# Altium footprint library Leadless.PcbLib: 132 footprints (part 3 of 9)
Each footprint in its own frame and in the unit in brackets; x right, y up, seen from the top. Pads: shape width x height; smd on the part's side, far side on the other; paste and mask are expansions set on the pad; w line width, h text height; cw(c..) or ccw(c..) is an arc to the next point about the centre after c.
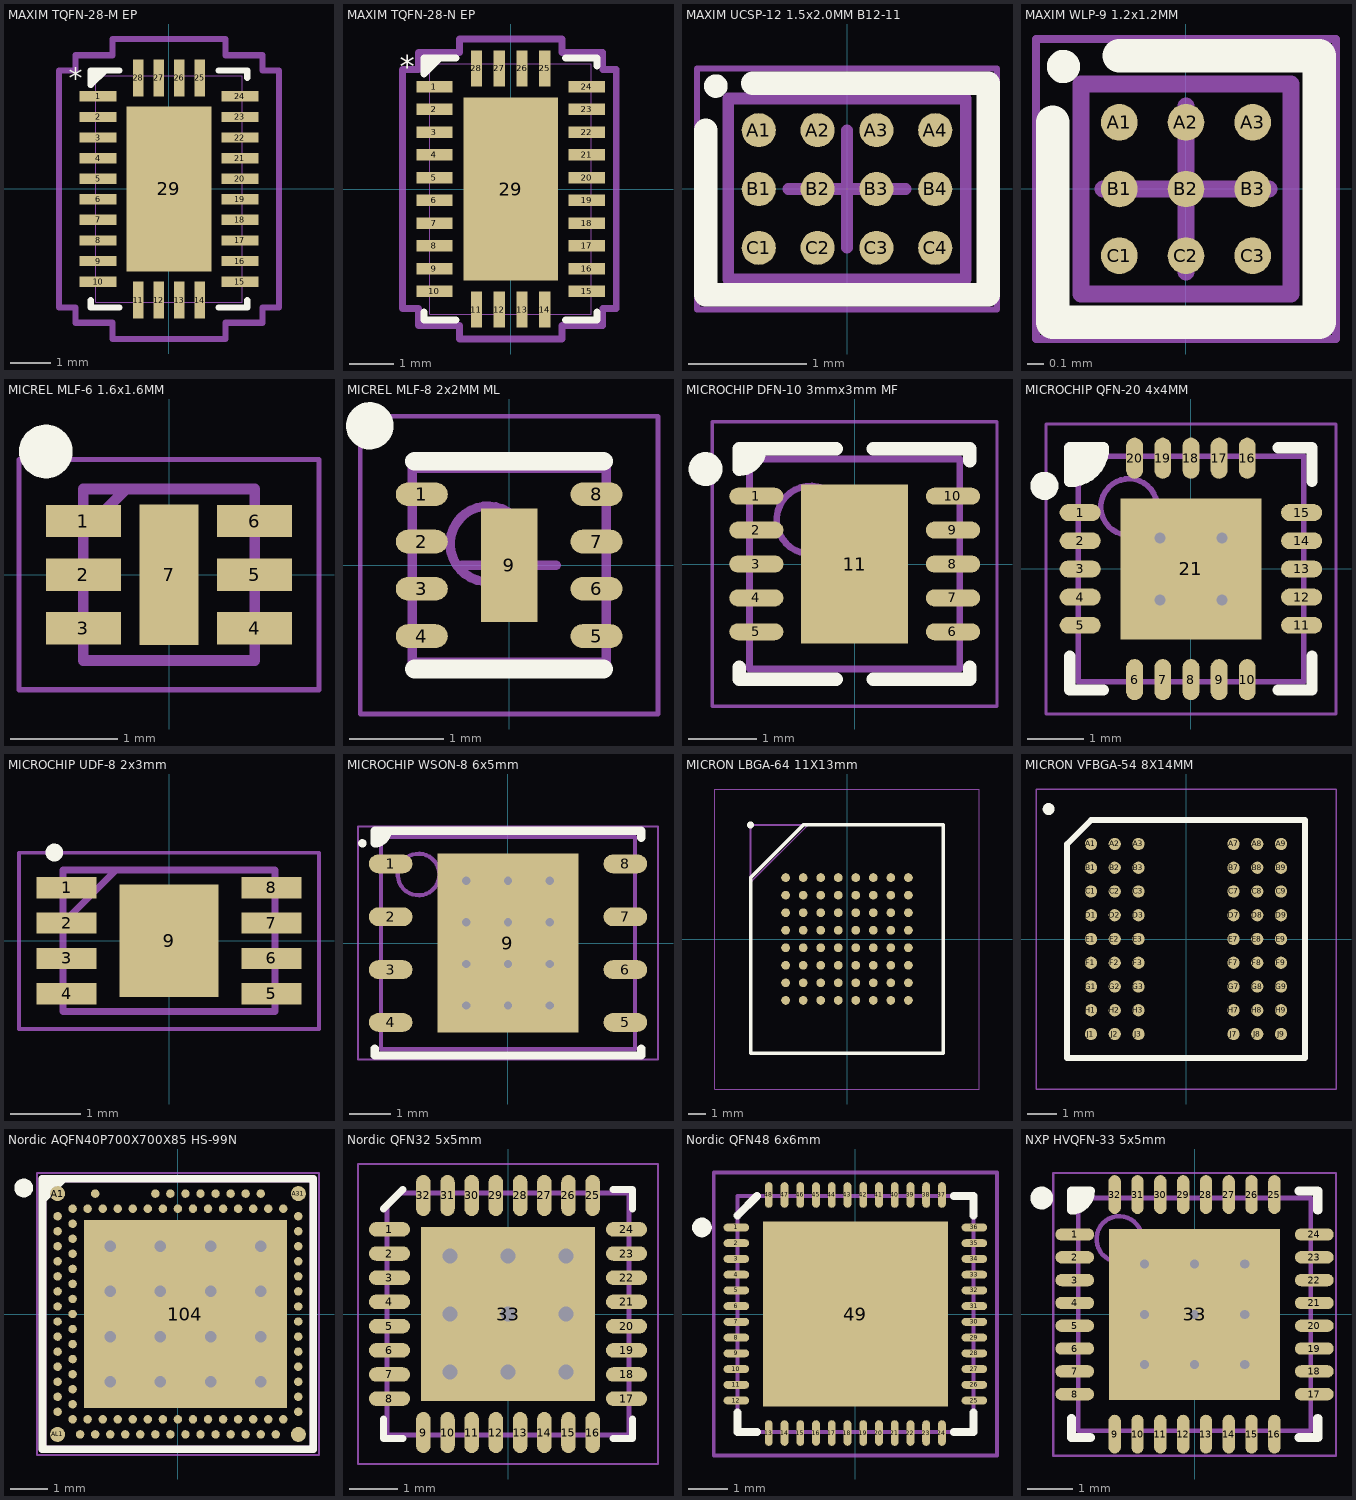
[diagram p2: the footprints below, top view; thin cyan lines are the x and y axes]

## MAXIM TQFN-28-M EP [mil] "Maxim 28 pin TQFN with Expansion Pad"
height 33.46
pads (29):
  rect 35.75x10.03 smd paste+0 mask+0: 1(-68.87,90) 2(-68.87,70) 3(-68.87,50) 4(-68.87,30) 5(-68.87,10) 6(-68.87,-10) 7(-68.87,-30) 8(-68.87,-50) 9(-68.87,-70) 10(-68.87,-90) 15(68.87,-90) 16(68.87,-70) 17(68.87,-50) 18(68.87,-30) 19(68.87,-10) 20(68.87,10) 21(68.87,30) 22(68.87,50) 23(68.87,70) 24(68.87,90)
  rect 10.03x35.75 smd paste+0 mask+0: 11(-30,-107.87) 12(-10,-107.87) 13(10,-107.87) 14(30,-107.87) 25(30,107.87) 26(10,107.87) 27(-10,107.87) 28(-30,107.87)
  rect 83.07x160.63 smd: 29(0,0)
Top Overlay:
  lines w5.98: -76,101.06 -62.06,115 ; -76,108.03 -69.03,115
  lines w6: -76,-108.12 -76,-115 -48.12,-115 ; -76,101.06 -76,115 -48.12,115 ; 48.12,-115 76,-115 76,-108.12 ; 48.12,115 76,115 76,108.12
  text "*" at -97.44,98.1 h19.68
Assembly Notes:
  lines w1: -71,-110 -71,110 71,110 71,-110 -71,-110 ; -71,-96 -71,-84 -71,-96 ; -71,-76 -71,-64 -71,-76 ; -71,-56 -71,-44 -71,-56 ; -71,-36 -71,-24 -71,-36 ; -71,-16 -71,-4 -71,-16 ; -71,4 -71,16 -71,4 ; -71,24 -71,36 -71,24 ; -71,44 -71,56 -71,44 ; -71,64 -71,76 -71,64 ; -71,84 -71,96 -71,84 ; -36,-110 -24,-110 -36,-110 ; -36,110 -24,110 -36,110 ; -16,-110 -4,-110 -16,-110 ; -16,110 -4,110 -16,110 ; 4,-110 16,-110 4,-110 ; 4,110 16,110 4,110 ; 24,-110 36,-110 24,-110 ; 24,110 36,110 24,110 ; 71,-96 71,-84 71,-96 ; 71,-76 71,-64 71,-76 ; 71,-56 71,-44 71,-56 ; 71,-36 71,-24 71,-36 ; 71,-16 71,-4 71,-16 ; 71,4 71,16 71,4 ; 71,24 71,36 71,24 ; 71,44 71,56 71,44 ; 71,64 71,76 71,64 ; 71,84 71,96 71,84
Dimensions:
  lines w6: -106.75,-115.02 -106.75,115.02 -91,115.02 -91,130 -55.02,130 -55.02,145.75 55.02,145.75 55.02,130 91,130 91,115.02 106.75,115.02 106.75,-115.02 91,-115.02 91,-130 55.02,-130 55.02,-145.75 -55.02,-145.75 -55.02,-130 -91,-130 -91,-115.02 -106.75,-115.02
3D body "21-0184D_MXM.step": height 55.12, standoff 0, extent -70.98,-110 70.99,110

## MAXIM TQFN-28-N EP [mil] "Maxim 28 pin TQFN with Expansion Pad"
height 33.46
pads (29):
  rect 31.81x10.03 smd paste+0 mask+0: 1(-66.91,90) 2(-66.91,70) 3(-66.91,50) 4(-66.91,30) 5(-66.91,10) 6(-66.91,-10) 7(-66.91,-30) 8(-66.91,-50) 9(-66.91,-70) 10(-66.91,-90) 15(66.91,-90) 16(66.91,-70) 17(66.91,-50) 18(66.91,-30) 19(66.91,-10) 20(66.91,10) 21(66.91,30) 22(66.91,50) 23(66.91,70) 24(66.91,90)
  rect 10.03x31.81 smd paste+0 mask+0: 11(-30,-105.91) 12(-10,-105.91) 13(10,-105.91) 14(30,-105.91) 25(30,105.91) 26(10,105.91) 27(-10,105.91) 28(-30,105.91)
  rect 83.07x160.63 smd: 29(0,0)
Top Overlay:
  lines w5.98: -76,101.06 -62.06,115 ; -76,108.03 -69.03,115
  lines w6: -76,-108.12 -76,-115 -48.12,-115 ; -76,101.06 -76,115 -48.12,115 ; 48.12,-115 76,-115 76,-108.12 ; 48.12,115 76,115 76,108.12
  text "*" at -97.44,98.1 h19.68
Assembly Notes:
  lines w1: -71,-110 71,-110 71,110 -71,110 -71,-110 ; -71,-96 -71,-84 -71,-96 ; -71,-76 -71,-64 -71,-76 ; -71,-56 -71,-44 -71,-56 ; -71,-36 -71,-24 -71,-36 ; -71,-16 -71,-4 -71,-16 ; -71,4 -71,16 -71,4 ; -71,24 -71,36 -71,24 ; -71,44 -71,56 -71,44 ; -71,64 -71,76 -71,64 ; -71,84 -71,96 -71,84 ; -36,-110 -24,-110 -36,-110 ; -36,110 -24,110 -36,110 ; -16,-110 -4,-110 -16,-110 ; -16,110 -4,110 -16,110 ; 4,-110 16,-110 4,-110 ; 4,110 16,110 4,110 ; 24,-110 36,-110 24,-110 ; 24,110 36,110 24,110 ; 71,-96 71,-84 71,-96 ; 71,-76 71,-64 71,-76 ; 71,-56 71,-44 71,-56 ; 71,-36 71,-24 71,-36 ; 71,-16 71,-4 71,-16 ; 71,4 71,16 71,4 ; 71,24 71,36 71,24 ; 71,44 71,56 71,44 ; 71,64 71,76 71,64 ; 71,84 71,96 71,84
Dimensions:
  lines w5.98: -95,-105 -95,105
  lines w6: -95,-105 -81,-105 -81,-120 -45.02,-120 -45.02,-131.81 45.02,-131.81 45.02,-120 81,-120 81,-105.02 92.81,-105.02 92.81,105.02 81,105.02 81,120 45.02,120 45.02,131.81 -45.02,131.81 -45.02,120 -81,120 -81,105 -95,105
3D body "21-0184D_MXM.step": height 55.12, standoff 0, extent -70.98,-109.99 70.99,110.01

## MAXIM UCSP-12 1.5x2.0MM B12-11 [mm] "BGA, 12-Leads, Body 2.02x1.54mmx0.67mm, Pitch 0.50mm"
height 0.67
pads (12):
  round 0.29 smd: A1(-0.75,0.5) A2(-0.25,0.5) A3(0.25,0.5) A4(0.75,0.5) B1(-0.75,0) B2(-0.25,0) B3(0.25,0) B4(0.75,0) C1(-0.75,-0.5) C2(-0.25,-0.5) C3(0.25,-0.5) C4(0.75,-0.5)
Top Overlay:
  circle w0.1: c-1.115,0.875 r0.05
  lines w0.2: -1.2,0.5 -1.2,-0.9 1.2,-0.9 1.2,0.9 -0.8,0.9
Top Component Outline:
  lines w0.1: -1.01,-0.77 1.01,-0.77 1.01,0.77 -1.01,0.77 -1.01,-0.77
Top Courtyard:
  lines w0.05: -1.275,-1.025 1.275,-1.025 1.275,1.025 -1.275,1.025 -1.275,-1.025
  lines w0.1: -0.5,0 0.5,0 ; 0,-0.5 0,0.5
3D body: height 0.67, standoff 0.27, extent -1.01,-0.77 1.01,0.77

## MAXIM WLP-9 1.2x1.2MM [mm] "WLP, 9-Leads, Body 1.26x1.26mmx0.64mm, Pitch 0.40mm"
height 0.64
pads (9):
  round 0.22 smd: A1(-0.4,0.4) A2(0,0.4) A3(0.4,0.4) B1(-0.4,0) B2(0,0) B3(0.4,0) C1(-0.4,-0.4) C2(0,-0.4) C3(0.4,-0.4)
Top Overlay:
  circle w0.1: c-0.735,0.735 r0.05
  lines w0.2: -0.8,0.4 -0.8,-0.8 0.8,-0.8 0.8,0.8 -0.4,0.8
Top Component Outline:
  lines w0.1: -0.63,-0.63 -0.63,0.63 0.63,0.63 0.63,-0.63 -0.63,-0.63
Top Courtyard:
  lines w0.05: -0.9,-0.9 -0.9,0.9 0.9,0.9 0.9,-0.9 -0.9,-0.9
  lines w0.1: -0.5,0 0.5,0 ; 0,-0.5 0,0.5
3D body: height 0.64, standoff 0.16, extent -0.63,-0.63 0.63,0.63

## MICREL MLF-6 1.6x1.6MM [mm] "6-UFDFN Exposed Pad, 6-TMLF®"
height 0.55
pads (7):
  rect 0.7x0.3 smd: 1(-0.8,0.5) 2(-0.8,0) 3(-0.8,-0.5) 4(0.8,-0.5) 5(0.8,0) 6(0.8,0.5)
  rect 0.55x1.31 smd: 7(0,0)
Top Overlay:
  circle w0.25: c-1.15,1.15 r0.125
Top Component Outline:
  lines w0.1: -0.8,0.4 -0.4,0.8 ; -0.8,-0.8 -0.8,0.8 0.8,0.8 0.8,-0.8 -0.8,-0.8
Top Courtyard:
  lines w0.05: -1.4,-1.075 -1.4,1.075 1.4,1.075 1.4,-1.075 -1.4,-1.075
3D body "MIC5353-3.3YMT-TR.stp": height 0.6, standoff 0, extent -0.85,-0.8 0.85,0.8

## MICREL MLF-8 2x2MM ML [mm] "MLF, 8-Leads, Body 2.00x2.00mm, Pitch 0.50mm, Thermal Pad 0.60x1.20mm, IPC Medium Density"
height 0.85
pads (9):
  oval 0.55x0.25 smd: 1(-0.925,0.75) 2(-0.925,0.25) 3(-0.925,-0.25) 4(-0.925,-0.75) 5(0.925,-0.75) 6(0.925,-0.25) 7(0.925,0.25) 8(0.925,0.75)
  rect 0.6x1.2 smd: 9(0,0)
Top Overlay:
  circle w0.25: c-1.475,1.475 r0.125
  lines w0.2: -1,-1.1 1,-1.1 ; -1,1.1 1,1.1
Top Component Outline:
  circle w0.1: c-0.225,0.225 r0.4
  lines w0.1: -1.025,-1.025 1.025,-1.025 1.025,1.025 -1.025,1.025 -1.025,-1.025
Top Courtyard:
  lines w0.05: -1.575,-1.575 1.575,-1.575 1.575,1.575 -1.575,1.575 -1.575,-1.575
  lines w0.1: -0.5,0 0.5,0 ; 0,-0.5 0,0.5
3D body: height 0.85, standoff 0.01, extent -1.025,-1.025 1.025,1.025

## MICROCHIP DFN-10 3mmx3mm MF [mm] "DFN, 10-Leads, Body 3.00x3.00mm, Pitch 0.50mm, Thermal Pad 1.58x2.34mm, IPC Medium Density"
height 1
pads (11):
  oval 0.8x0.25 smd: 1(-1.45,1) 2(-1.45,0.5) 3(-1.45,0) 4(-1.45,-0.5) 5(-1.45,-1) 6(1.45,-1) 7(1.45,-0.5) 8(1.45,0) 9(1.45,0.5) 10(1.45,1)
  rect 1.58x2.34 smd: 11(0,0)
Top Overlay:
  circle w0.25: c-2.2,1.4 r0.125
  region: -1.7,1.7 -1.4,1.7 -1.7,1.4
  lines w0.2: -1.7,-1.525 -1.7,-1.7 -0.275,-1.7 ; -1.4,1.7 cw(c-1.7,1.7) -1.7,1.4 -1.7,1.7 -0.275,1.7 ; 0.275,-1.7 1.7,-1.7 1.7,-1.525 ; 0.275,1.7 1.7,1.7 1.7,1.525
Top Component Outline:
  circle w0.1: c-0.65,0.65 r0.5
  lines w0.1: -1.55,-1.55 1.55,-1.55 1.55,1.55 -1.55,1.55 -1.55,-1.55
Top Courtyard:
  lines w0.05: -2.1,-2.1 2.1,-2.1 2.1,2.1 -2.1,2.1 -2.1,-2.1
  lines w0.1: -0.5,0 0.5,0 ; 0,-0.5 0,0.5
3D body: height 1, standoff 0.01, extent -1.55,-1.55 1.55,1.55

## MICROCHIP QFN-20 4x4MM [mm] "QFN, 20-Leads, Body 4.00x4.00mm, Pitch 0.50mm, Thermal Pad 2.50x2.50mm, IPC Medium Density"
height 1
pads (21):
  oval 0.73x0.3 smd: 1(-1.965,1) 2(-1.965,0.5) 3(-1.965,0) 4(-1.965,-0.5) 5(-1.965,-1) 11(1.965,-1) 12(1.965,-0.5) 13(1.965,0) 14(1.965,0.5) 15(1.965,1)
  oval 0.3x0.73 smd: 6(-1,-1.965) 7(-0.5,-1.965) 8(0,-1.965) 9(0.5,-1.965) 10(1,-1.965) 16(1,1.965) 17(0.5,1.965) 18(0,1.965) 19(-0.5,1.965) 20(-1,1.965)
  rect 2.5x2.5 smd: 21(0,0)
via -0.55,0.55 diameter 0.5 hole 0.2
via 0.55,0.55 diameter 0.5 hole 0.2
via -0.55,-0.55 diameter 0.5 hole 0.2
via 0.55,-0.55 diameter 0.5 hole 0.2
Top Overlay:
  circle w0.25: c-2.6,1.475 r0.125
  region: -1.55,2.15 -2.15,2.15 -2.15,1.55 -1.925,1.55 -1.55,1.925
  lines w0.2: -2.15,-1.55 -2.15,-2.15 -1.55,-2.15 ; 1.55,-2.15 2.15,-2.15 2.15,-1.55 ; 1.55,2.15 2.15,2.15 2.15,1.55 ; -2.15,1.55 ccw(c-2.15,2.15) -1.55,2.15 -2.15,2.15 -2.15,1.55
Top Component Outline:
  circle w0.1: c-1.1,1.1 r0.5
  lines w0.1: -2,-2 -2,2 2,2 2,-2 -2,-2
Top Courtyard:
  lines w0.05: -2.575,-2.575 -2.575,2.575 2.575,2.575 2.575,-2.575 -2.575,-2.575
  lines w0.1: -0.5,0 0.5,0 ; 0,-0.5 0,0.5
3D body: height 1, standoff 0, extent -2,-2 2,2

## MICROCHIP UDF-8 2x3mm [mm]
pads (9):
  rect 0.85x0.3 smd: 1(-1.45,0.75) 2(-1.45,0.25) 3(-1.45,-0.25) 4(-1.45,-0.75) 5(1.45,-0.75) 6(1.45,-0.25) 7(1.45,0.25) 8(1.45,0.75)
  rect 1.4x1.6 smd: 9(0,0)
Top Overlay:
  circle w0.15: c-1.625,1.25 r0.05
Top Component Outline:
  lines w0.1: -1.5,0.25 -0.75,1 ; -1.5,-1 -1.5,1 1.5,1 1.5,-1 -1.5,-1
Top Courtyard:
  lines w0.05: -2.125,-1.25 -2.125,1.25 2.125,1.25 2.125,-1.25 -2.125,-1.25
3D body "ATECC608B-MAHCZ-T.stp": height 0.6, standoff 0, extent -1.55,-1 1.55,1

## MICROCHIP WSON-8 6x5mm [mm] "SON, 8-Leads, Body 5.00x6.00mm, Pitch 1.27mm, Thermal Pad 4.30x3.40mm, IPC Medium Density"
height 0.8
pads (9):
  oval 1.05x0.45 smd: 1(-2.82,1.905) 2(-2.82,0.635) 3(-2.82,-0.635) 4(-2.82,-1.905) 5(2.82,-1.905) 6(2.82,-0.635) 7(2.82,0.635) 8(2.82,1.905)
  rect 3.4x4.3 smd paste-1.7 mask+0: 9(0,0)
via -1,1.5 diameter 0.5 hole 0.2
via 0,1.5 diameter 0.5 hole 0.2
via 1,1.5 diameter 0.5 hole 0.2
via -1,0.5 diameter 0.5 hole 0.2
via 0,0.5 diameter 0.5 hole 0.2
via 1,0.5 diameter 0.5 hole 0.2
via -1,-0.5 diameter 0.5 hole 0.2
via 0,-0.5 diameter 0.5 hole 0.2
via 1,-0.5 diameter 0.5 hole 0.2
via -1,-1.5 diameter 0.5 hole 0.2
via 0,-1.5 diameter 0.5 hole 0.2
via 1,-1.5 diameter 0.5 hole 0.2
Top Overlay:
  circle w0.1: c-3.5,2.4 r0.05
  region: -3.2,2.4 -3.14,2.4 -3.03,2.446 -2.946,2.53 -2.9,2.64 -2.9,2.7 -3.2,2.7
  lines w0.2: -3.2,-2.53 -3.2,-2.7 3.2,-2.7 3.2,-2.53 ; -2.9,2.7 cw(c-3.2,2.7) -3.2,2.4 ; 3.2,2.53 3.2,2.7 -3.2,2.7 -3.2,2.4 ; -3.2,2.4 -3.2,2.4
Top Paste:
  rectangle: -1.595,0.815 -0.665,2.045
  rectangle: -1.595,-0.615 -0.665,0.615
  rectangle: -1.595,-2.045 -0.665,-0.815
  rectangle: -0.465,0.815 0.465,2.045
  rectangle: -0.465,-0.615 0.465,0.615
  rectangle: -0.465,-2.045 0.465,-0.815
  rectangle: 0.665,0.815 1.595,2.045
  rectangle: 0.665,-0.615 1.595,0.615
  rectangle: 0.665,-2.045 1.595,-0.815
Top Component Outline:
  circle w0.1: c-2.15,1.65 r0.5
  lines w0.1: -3.05,-2.55 -3.05,2.55 3.05,2.55 3.05,-2.55 -3.05,-2.55
Top Courtyard:
  lines w0.05: -3.605,-2.8 -3.605,2.8 3.605,2.8 3.605,-2.8 -3.605,-2.8
  lines w0.1: -0.5,0 0.5,0 ; 0,-0.5 0,0.5
3D body: height 0.8, standoff 0, extent -3.05,-2.55 3.05,2.55

## MICRON LBGA-64 11X13mm [mm] "64-Ball LBGA – 11mm x 13mm (Package Code: PC)"
height 1.3
pads (64):
  round 0.5 smd: A1(-3.5,3.5) A2(-2.5,3.5) A3(-1.5,3.5) A4(-0.5,3.5) A5(0.5,3.5) A6(1.5,3.5) A7(2.5,3.5) A8(3.5,3.5) B1(-3.5,2.5) B2(-2.5,2.5) B3(-1.5,2.5) B4(-0.5,2.5) B5(0.5,2.5) B6(1.5,2.5) B7(2.5,2.5) B8(3.5,2.5) C1(-3.5,1.5) C2(-2.5,1.5) C3(-1.5,1.5) C4(-0.5,1.5) C5(0.5,1.5) C6(1.5,1.5) C7(2.5,1.5) C8(3.5,1.5) D1(-3.5,0.5) D2(-2.5,0.5) D3(-1.5,0.5) D4(-0.5,0.5) D5(0.5,0.5) D6(1.5,0.5) D7(2.5,0.5) D8(3.5,0.5) E1(-3.5,-0.5) E2(-2.5,-0.5) E3(-1.5,-0.5) E4(-0.5,-0.5) E5(0.5,-0.5) E6(1.5,-0.5) E7(2.5,-0.5) E8(3.5,-0.5) F1(-3.5,-1.5) F2(-2.5,-1.5) F3(-1.5,-1.5) F4(-0.5,-1.5) F5(0.5,-1.5) F6(1.5,-1.5) F7(2.5,-1.5) F8(3.5,-1.5) G1(-3.5,-2.5) G2(-2.5,-2.5) G3(-1.5,-2.5) G4(-0.5,-2.5) G5(0.5,-2.5) G6(1.5,-2.5) G7(2.5,-2.5) G8(3.5,-2.5) H1(-3.5,-3.5) H2(-2.5,-3.5) H3(-1.5,-3.5) H4(-0.5,-3.5) H5(0.5,-3.5) H6(1.5,-3.5) H7(2.5,-3.5) H8(3.5,-3.5)
Top Overlay:
  circle w0.2: c-5.5,6.5 r0.1
  lines w0.2: -5.5,-6.5 5.5,-6.5 5.5,6.5 -2.5,6.5 -5.5,3.5 -5.5,-6.5
Top Component Outline:
  lines w0.1: -5.5,3.225 -2.225,6.5 ; -5.5,-6.5 5.5,-6.5 5.5,6.5 -5.5,6.5 -5.5,-6.5
Top Courtyard:
  lines w0.05: -7.55,-8.55 7.55,-8.55 7.55,8.55 -7.55,8.55 -7.55,-8.55
3D body "MT28EW128ABA1LPC-0SIT.stp": height 1.4, standoff 0, extent -5.5,-6.5 5.5,6.5

## MICRON VFBGA-54 8X14MM [mm] "54-Ball VFBGA \"BG/FG\" (8mm x 14mm) (x16)"
pads (54):
  round 0.41 smd: A1(-3.2,3.2) A2(-2.4,3.2) A3(-1.6,3.2) A7(1.6,3.2) A8(2.4,3.2) A9(3.2,3.2) B1(-3.2,2.4) B2(-2.4,2.4) B3(-1.6,2.4) B7(1.6,2.4) B8(2.4,2.4) B9(3.2,2.4) C1(-3.2,1.6) C2(-2.4,1.6) C3(-1.6,1.6) C7(1.6,1.6) C8(2.4,1.6) C9(3.2,1.6) D1(-3.2,0.8) D2(-2.4,0.8) D3(-1.6,0.8) D7(1.6,0.8) D8(2.4,0.8) D9(3.2,0.8) E1(-3.2,0) E2(-2.4,0) E3(-1.6,0) E7(1.6,0) E8(2.4,0) E9(3.2,0) F1(-3.2,-0.8) F2(-2.4,-0.8) F3(-1.6,-0.8) F7(1.6,-0.8) F8(2.4,-0.8) F9(3.2,-0.8) G1(-3.2,-1.6) G2(-2.4,-1.6) G3(-1.6,-1.6) G7(1.6,-1.6) G8(2.4,-1.6) G9(3.2,-1.6) H1(-3.2,-2.4) H2(-2.4,-2.4) H3(-1.6,-2.4) H7(1.6,-2.4) H8(2.4,-2.4) H9(3.2,-2.4) J1(-3.2,-3.2) J2(-2.4,-3.2) J3(-1.6,-3.2) J7(1.6,-3.2) J8(2.4,-3.2) J9(3.2,-3.2)
Top Overlay:
  circle w0.2: c-4.625,4.375 r0.1
  lines w0.2: -4,-4 4,-4 4,4 -3.2,4 -4,3.2 -4,-4
Top Component Outline:
  lines w0.1: -4,-4 -4,3.2 -3.2,4 4,4 4,-4 -4,-4
Top Courtyard:
  lines w0.05: -5.05,-5.05 5.05,-5.05 5.05,5.05 -5.05,5.05 -5.05,-5.05
3D body "MICRON-VFBGA54-8x8.step": height 1.1, standoff 0, extent -4,-4 4,4

## Nordic AQFN40P700X700X85 HS-99N [mm] "AQFN, 98-Leads, Body 7.00x7.00mm, Pitch 0.40mm, Thermal Pad 5.4x5.0mm, IPC Medium Density"
height 0.85
pads (115):
  rect 5.4x5 smd paste-5: 104(0.2,0)
  round 0.4 smd paste+0.012: A1(-3.2,3.2) A31(3.2,3.2) AL1(-3.2,-3.2) AL31(3.2,-3.2)
  round 0.225 smd paste+0.012: A5(-2.2,3.2) A13(-0.6,3.2) A15(-0.2,3.2) A17(0.2,3.2) A19(0.6,3.2) A21(1,3.2) A23(1.4,3.2) A25(1.8,3.2) A27(2.2,3.2) AA1(-3.2,-1) AA31(3.2,-1) AB2(-2.8,-1.2) AC1(-3.2,-1.4) AC31(3.2,-1.4) AD2(-2.8,-1.6) AE1(-3.2,-1.8) AE31(3.2,-1.8) AF2(-2.8,-2) AG1(-3.2,-2.2) AG31(3.2,-2.2) AH2(-2.8,-2.4) AJ1(-3.2,-2.6) AJ31(3.2,-2.6) AK2(-2.8,-2.8) AK4(-2.4,-2.8) AK6(-2,-2.8) AK8(-1.6,-2.8) AK10(-1.2,-2.8) AK12(-0.8,-2.8) AK14(-0.4,-2.8) AK16(0,-2.8) AK18(0.4,-2.8) AK20(0.8,-2.8) AK22(1.2,-2.8) AK24(1.6,-2.8) AK26(2,-2.8) AK28(2.4,-2.8) AK30(2.8,-2.8) AL3(-2.6,-3.2) AL5(-2.2,-3.2) AL7(-1.8,-3.2) AL9(-1.4,-3.2) AL11(-1,-3.2) AL13(-0.6,-3.2) AL15(-0.2,-3.2) AL17(0.2,-3.2) AL19(0.6,-3.2) AL21(1,-3.2) AL23(1.4,-3.2) AL25(1.8,-3.2) AL27(2.2,-3.2) AL29(2.6,-3.2) B2(-2.8,2.8) B4(-2.4,2.8) B6(-2,2.8) B8(-1.6,2.8) B10(-1.2,2.8) B12(-0.8,2.8) B14(-0.4,2.8) B16(0,2.8) B18(0.4,2.8) B20(0.8,2.8) B22(1.2,2.8) B24(1.6,2.8) B26(2,2.8) B28(2.4,2.8) B30(2.8,2.8) C1(-3.2,2.6) C31(3.2,2.6) D2(-2.8,2.4) E1(-3.2,2.2) E31(3.2,2.2) F2(-2.8,2) G1(-3.2,1.8) G31(3.2,1.8) H2(-2.8,1.6) J1(-3.2,1.4) J31(3.2,1.4) K2(-2.8,1.2) L1(-3.2,1) L31(3.2,1) M2(-2.8,0.8) N1(-3.2,0.6) N31(3.2,0.6) P2(-2.8,0.4) R1(-3.2,0.2) R31(3.2,0.2) T2(-2.8,0) U1(-3.2,-0.2) U31(3.2,-0.2) V2(-2.8,-0.4) W1(-3.2,-0.6) W31(3.2,-0.6) Y2(-2.8,-0.8)
  rrect15% 1.1x1 on Top Paste: ""(-1.75,-1.8) ""(-1.75,-0.6) ""(-1.75,0.6) ""(-1.75,1.8) ""(-0.45,-1.8) ""(-0.45,-0.6) ""(-0.45,0.6) ""(-0.45,1.8) ""(0.85,-1.8) ""(0.85,-0.6) ""(0.85,0.6) ""(0.85,1.8) ""(2.15,-1.8) ""(2.15,-0.6) ""(2.15,0.6) ""(2.15,1.8)
via -1.8,1.8 diameter 0.61 hole 0.305
via -0.467,1.8 diameter 0.61 hole 0.305
via 0.867,1.8 diameter 0.61 hole 0.305
via 2.2,1.8 diameter 0.61 hole 0.305
via -1.8,0.6 diameter 0.61 hole 0.305
via -0.467,0.6 diameter 0.61 hole 0.305
via 0.867,0.6 diameter 0.61 hole 0.305
via 2.2,0.6 diameter 0.61 hole 0.305
via -1.8,-0.6 diameter 0.61 hole 0.305
via -0.467,-0.6 diameter 0.61 hole 0.305
via 0.867,-0.6 diameter 0.61 hole 0.305
via 2.2,-0.6 diameter 0.61 hole 0.305
via -1.8,-1.8 diameter 0.61 hole 0.305
via -0.467,-1.8 diameter 0.61 hole 0.305
via 0.867,-1.8 diameter 0.61 hole 0.305
via 2.2,-1.8 diameter 0.61 hole 0.305
Top Overlay:
  circle w0.25: c-4.1,3.35 r0.125
  region: -3,3.5 -3.5,3 -3.5,3.5
  lines w0.2: -3.6,-3.6 3.6,-3.6 3.6,3.6 -3.6,3.6 -3.6,-3.6
Top Component Center:
  lines w0.1: -0.5,0 0.5,0 ; 0,-0.5 0,0.5
Top Component Outline:
  lines w0.2: -3.6,-3.6 -3.6,3.6 3.6,3.6 3.6,-3.6 -3.6,-3.6
Top Courtyard:
  lines w0.05: -3.75,-3.75 3.75,-3.75 3.75,3.75 -3.75,3.75 -3.75,-3.75
3D body "aQFN-94.sldprt": height 0.85, standoff 0, extent -3.5,-3.5 3.5,3.5

## Nordic QFN32 5x5mm [mm]
pads (33):
  oval 0.85x0.3 smd: 1(-2.45,1.75) 2(-2.45,1.25) 3(-2.45,0.75) 4(-2.45,0.25) 5(-2.45,-0.25) 6(-2.45,-0.75) 7(-2.45,-1.25) 8(-2.45,-1.75) 17(2.45,-1.75) 18(2.45,-1.25) 19(2.45,-0.75) 20(2.45,-0.25) 21(2.45,0.25) 22(2.45,0.75) 23(2.45,1.25) 24(2.45,1.75)
  oval 0.3x0.85 smd: 9(-1.75,-2.45) 10(-1.25,-2.45) 11(-0.75,-2.45) 12(-0.25,-2.45) 13(0.25,-2.45) 14(0.75,-2.45) 15(1.25,-2.45) 16(1.75,-2.45) 25(1.75,2.45) 26(1.25,2.45) 27(0.75,2.45) 28(0.25,2.45) 29(-0.25,2.45) 30(-0.75,2.45) 31(-1.25,2.45) 32(-1.75,2.45)
  rect 3.6x3.6 smd: 33(0,0)
via 1.2,1.2 diameter 0.61 hole 0.305
via 1.2,0 diameter 0.61 hole 0.305
via 1.2,-1.2 diameter 0.61 hole 0.305
via 0,-1.2 diameter 0.61 hole 0.305
via -1.2,-1.2 diameter 0.61 hole 0.305
via -1.2,0 diameter 0.61 hole 0.305
via -1.2,1.2 diameter 0.61 hole 0.305
via 0,1.2 diameter 0.61 hole 0.305
via 0,0 diameter 0.61 hole 0.305
Top Overlay:
  lines w0.15: -2.575,-2.175 -2.575,-2.575 -2.175,-2.575 ; -2.575,2.175 -2.175,2.575 ; 2.175,-2.575 2.575,-2.575 2.575,-2.175 ; 2.175,2.575 2.575,2.575 2.575,2.175
Top Component Outline:
  lines w0.1: -2.5,-2.5 -2.5,2.25 -2.25,2.5 2.5,2.5 2.5,-2.5 -2.5,-2.5
Top Courtyard:
  lines w0.05: -3.1,-3.1 -3.1,3.1 3.1,3.1 3.1,-3.1 -3.1,-3.1
3D body "NPM1300-QEAA-R.stp": height 0.9, standoff 0, extent -2.55,-2.55 2.55,2.55

## Nordic QFN48 6x6mm [mm] "NORDIC QFN-48 6x6MM"
height 0.9
pads (49):
  oval 0.65x0.2 smd: 1(-3.025,2.2) 2(-3.025,1.8) 3(-3.025,1.4) 4(-3.025,1) 5(-3.025,0.6) 6(-3.025,0.2) 7(-3.025,-0.2) 8(-3.025,-0.6) 9(-3.025,-1) 10(-3.025,-1.4) 11(-3.025,-1.8) 12(-3.025,-2.2) 25(3.025,-2.2) 26(3.025,-1.8) 27(3.025,-1.4) 28(3.025,-1) 29(3.025,-0.6) 30(3.025,-0.2) 31(3.025,0.2) 32(3.025,0.6) 33(3.025,1) 34(3.025,1.4) 35(3.025,1.8) 36(3.025,2.2)
  oval 0.2x0.65 smd: 13(-2.2,-3.025) 14(-1.8,-3.025) 15(-1.4,-3.025) 16(-1,-3.025) 17(-0.6,-3.025) 18(-0.2,-3.025) 19(0.2,-3.025) 20(0.6,-3.025) 21(1,-3.025) 22(1.4,-3.025) 23(1.8,-3.025) 24(2.2,-3.025) 37(2.2,3.025) 38(1.8,3.025) 39(1.4,3.025) 40(1,3.025) 41(0.6,3.025) 42(0.2,3.025) 43(-0.2,3.025) 44(-0.6,3.025) 45(-1,3.025) 46(-1.4,3.025) 47(-1.8,3.025) 48(-2.2,3.025)
  rect 4.7x4.7 smd: 49(0,0)
Top Overlay:
  circle w0.25: c-3.9,2.2 r0.125
  lines w0.2: -3,-2.5 -3,-3 -2.5,-3 ; -3,2.5 -2.5,3 ; 2.5,-3 3,-3 3,-2.5 ; 2.5,3 3,3 3,2.5
Top Component Outline:
  lines w0.1: -3,-3 -3,3 3,3 3,-3 -3,-3
Top Courtyard:
  lines w0.1: -0.5,0 0.5,0 ; 0,-0.5 0,0.5 ; -3.6,-3.6 -3.6,3.6 3.6,3.6 3.6,-3.6 -3.6,-3.6
3D body "User Library-QFN48.step": height 0.86, standoff -0.01, extent -3.02,-3.02 3.02,3.02

## NXP HVQFN-33 5x5mm [mm] "QFN, 32-Leads, Body 5.00x5.00mm, Pitch 0.50mm, Thermal Pad 3.75x3.75mm, IPC Medium Density"
height 0.85
pads (33):
  oval 0.85x0.27 smd: 1(-2.625,1.75) 2(-2.625,1.25) 3(-2.625,0.75) 4(-2.625,0.25) 5(-2.625,-0.25) 6(-2.625,-0.75) 7(-2.625,-1.25) 8(-2.625,-1.75) 17(2.625,-1.75) 18(2.625,-1.25) 19(2.625,-0.75) 20(2.625,-0.25) 21(2.625,0.25) 22(2.625,0.75) 23(2.625,1.25) 24(2.625,1.75)
  oval 0.27x0.85 smd: 9(-1.75,-2.625) 10(-1.25,-2.625) 11(-0.75,-2.625) 12(-0.25,-2.625) 13(0.25,-2.625) 14(0.75,-2.625) 15(1.25,-2.625) 16(1.75,-2.625) 25(1.75,2.625) 26(1.25,2.625) 27(0.75,2.625) 28(0.25,2.625) 29(-0.25,2.625) 30(-0.75,2.625) 31(-1.25,2.625) 32(-1.75,2.625)
  rect 3.75x3.75 smd: 33(0,0)
via 1.1,-1.1 diameter 0.5 hole 0.2
via 0,-1.1 diameter 0.5 hole 0.2
via -1.1,-1.1 diameter 0.5 hole 0.2
via 1.1,0 diameter 0.5 hole 0.2
via 0,0 diameter 0.5 hole 0.2
via -1.1,0 diameter 0.5 hole 0.2
via 1.1,1.1 diameter 0.5 hole 0.2
via 0,1.1 diameter 0.5 hole 0.2
via -1.1,1.1 diameter 0.5 hole 0.2
Top Overlay:
  circle w0.25: c-3.35,2.55 r0.125
  region: -2.7,2.7 -2.285,2.7 -2.285,2.515 -2.515,2.285 -2.7,2.285
  lines w0.2: -2.7,-2.285 -2.7,-2.7 -2.285,-2.7 ; 2.285,-2.7 2.7,-2.7 2.7,-2.285 ; 2.285,2.7 2.7,2.7 2.7,2.285 ; -2.7,2.285 ccw(c-2.7,2.7) -2.285,2.7 -2.7,2.7 -2.7,2.285
Top Component Outline:
  circle w0.1: c-1.65,1.65 r0.5
  lines w0.1: -2.55,-2.55 2.55,-2.55 2.55,2.55 -2.55,2.55 -2.55,-2.55
Top Courtyard:
  lines w0.05: -3.1,-3.1 3.1,-3.1 3.1,3.1 -3.1,3.1 -3.1,-3.1
  lines w0.1: -0.5,0 0.5,0 ; 0,-0.5 0,0.5
3D body: height 0.85, standoff 0.01, extent -2.55,-2.55 2.55,2.55